# EAGLE library part 74LVC2G32 (library 1_spektrak)
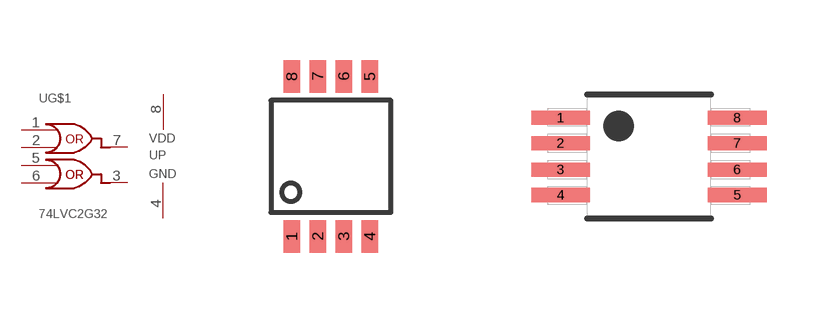
[diagram p23: symbol with the pads of TSSOP8-OLD; footprints TSSOP8-OLD, TSSOP08]

Designator prefix U; gates G$1=OR_DUAL P=PWRGND

## 74LVC2G32'OLD'  [TSSOP8-OLD]
1  G$1:1A  in
2  G$1:1B  in
3  G$1:2Y  out
4  P:GND  pwr
5  G$1:2A  in
6  G$1:2B  in
7  G$1:1Y  out
8  P:VDD  pwr

## 74LVC2G32  [TSSOP08]
Pads as for TSSOP8-OLD

## Footprint TSSOP8-OLD (pad centres in mm)
smd 0.406 x 0.813: 1 -0.9,-2; 2 -0.25,-2; 3 0.4,-2; 4 1.05,-2; 5 1.05,2; 6 0.4,2; 7 -0.25,2; 8 -0.9,2

## Footprint TSSOP08 (pad centres in mm)
smd 1.473 x 0.356: 1 -2.21,0.965; 2 -2.21,0.33; 3 -2.21,-0.33; 4 -2.21,-0.965; 5 2.21,-0.965; 6 2.21,-0.33; 7 2.21,0.33; 8 2.21,0.965